# EAGLE library part MP1482 (library OLIMEX_IC)
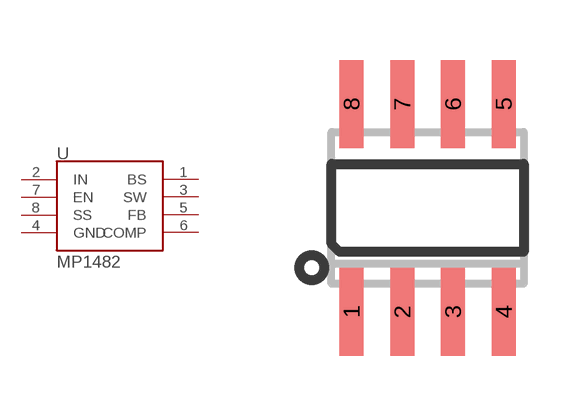
[diagram p0: symbol with the pads of SOIC8; footprint SOIC8]

Designator prefix U

## MP1482  [SOIC8]
1  BS
2  IN
3  SW
4  GND
5  FB
6  COMP
7  EN
8  SS

## Footprint SOIC8 (pad centres in mm)
Small Outline IC
smd 0.6 x 2.2: 1 -1.905,-2.6; 2 -0.635,-2.6; 3 0.635,-2.6; 4 1.905,-2.6; 5 1.905,2.6; 6 0.635,2.6; 7 -0.635,2.6; 8 -1.905,2.6